# EAGLE library part IR2103STRPBF (library IR2103STRPBF)
MOSFET DRVR 600V 0.36A 2-OUT Hi/Lo Side Half Brdg Inv/Non-Inv 8-Pin SOIC T/R
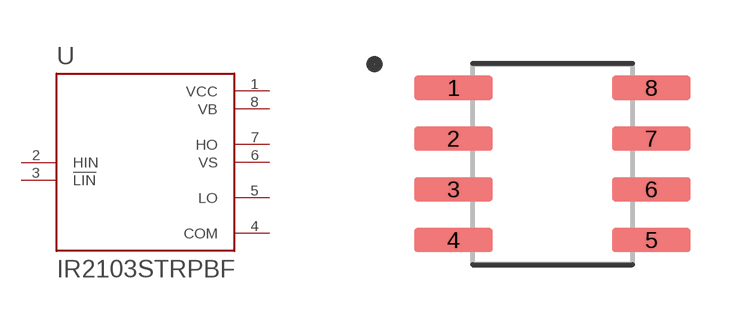
[diagram p0: symbol with the pads of SOIC127P600X175-8N; footprint SOIC127P600X175-8N]

Designator prefix U

## IR2103STRPBF (Availability: Unavailable; Description: Half-Bridge Gate Driver IC Inverting, Non-Inverting 8-SOIC; MF: Infineon Technologies; MP: IR2103STRPBF; Package: SOIC-8 Infineon; Price: None)  [SOIC127P600X175-8N]
1  VCC  pwr
2  HIN  in
3  !LIN  in
4  COM  pwr
5  LO  out
6  VS  out
7  HO  out
8  VB  pwr

## Footprint SOIC127P600X175-8N (pad centres in mm)
smd 1.97 x 0.6: 1 -2.475,1.905; 2 -2.475,0.635; 3 -2.475,-0.635; 4 -2.475,-1.905; 5 2.475,-1.905; 6 2.475,-0.635; 7 2.475,0.635; 8 2.475,1.905